# EAGLE library part SIT9102 (library lcs-2000)
1 to 220 MHz High Performance Oscillator
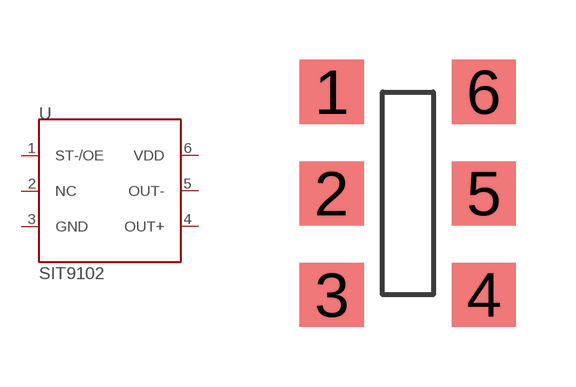
[diagram p0: symbol with the pads of SIT9102; footprint SIT9102]

Designator prefix U

## SIT9102  [SIT9102]
1  ST-/OE  in
2  NC  nc
3  GND  pwr
4  OUT+  out
5  OUT-  out
6  VDD  pwr

## Footprint SIT9102 (pad centres in mm)
1 to 220 MHz High Performance Oscillator
smd 1.6 x 1.6: 1 -2.54,2.54; 2 -2.54,0; 3 -2.54,-2.54; 4 1.27,-2.54; 5 1.27,0; 6 1.27,2.54